# EAGLE library part TDK_PXF_15_12V (library TeamB_Task11)
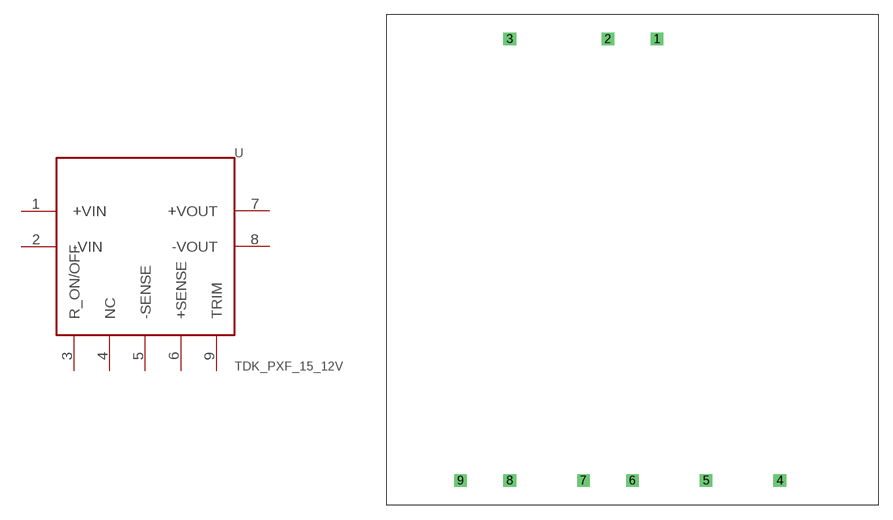
[diagram p1: symbol with the pads of TDK_PXF_15_12V; footprint TDK_PXF_15_12V]

Designator prefix -

## TDK_PXF_15_12V  [TDK_PXF_15_12V]
1  +VIN
2  -VIN
3  R_ON/OFF
4  NC  nc
5  -SENSE
6  +SENSE
7  +VOUT
8  -VOUT
9  TRIM

## Footprint TDK_PXF_15_12V (pad centres in mm)
drill 0.8 pad 1.27 square: 1 2.54,-2.54; 2 -2.54,-2.54; 3 -12.7,-2.54; 4 15.24,-48.26; 5 7.62,-48.26; 6 0,-48.26; 7 -5.08,-48.26; 8 -12.7,-48.26; 9 -17.78,-48.26